# Altium schematic symbol library SCH - MCU - INFINEON - INFINEON S6E2HE4F0XXV2 LQFP-100.SchLib: 1 symbol
Pins are listed as number, name and electrical type; pins without a type are passive.

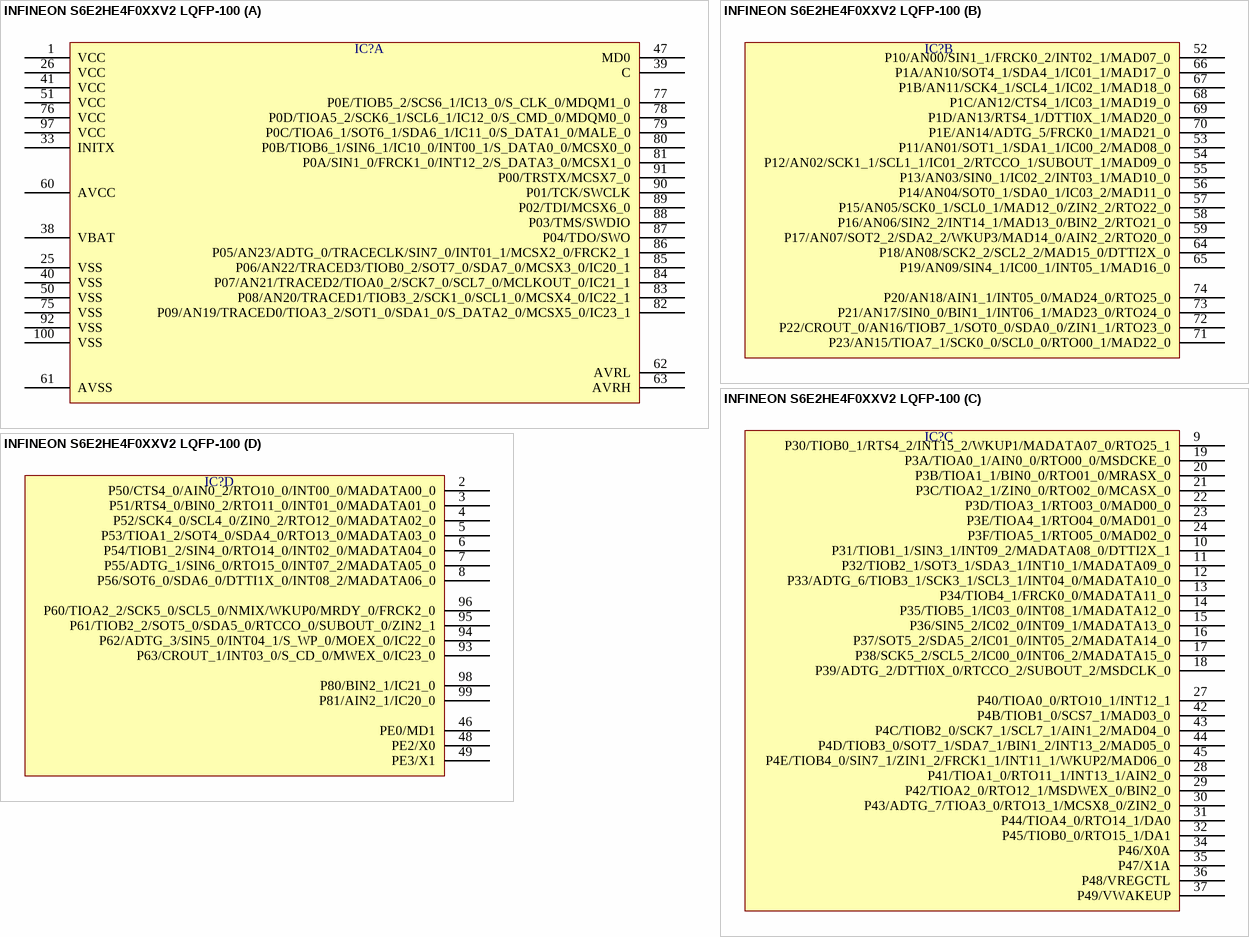
[diagram p0: symbol INFINEON S6E2HE4F0XXV2 LQFP-100]

## INFINEON S6E2HE4F0XXV2 LQFP-100
designator IC?  (value not drawn)
part A pins: 1 VCC, 25 VSS, 26 VCC, 33 INITX, 38 VBAT, 39 C, 40 VSS, 41 VCC, 47 MD0, 50 VSS, 51 VCC, 60 AVCC, 61 AVSS, 62 AVRL, 63 AVRH, 75 VSS, 76 VCC, 77 P0E/TIOB5_2/SCS6_1/IC13_0/S_CLK_0/MDQM1_0, 78 P0D/TIOA5_2/SCK6_1/SCL6_1/IC12_0/S_CMD_0/MDQM0_0, 79 P0C/TIOA6_1/SOT6_1/SDA6_1/IC11_0/S_DATA1_0/MALE_0, 80 P0B/TIOB6_1/SIN6_1/IC10_0/INT00_1/S_DATA0_0/MCSX0_0, 81 P0A/SIN1_0/FRCK1_0/INT12_2/S_DATA3_0/MCSX1_0, 82 P09/AN19/TRACED0/TIOA3_2/SOT1_0/SDA1_0/S_DATA2_0/MCSX5_0/IC23_1, 83 P08/AN20/TRACED1/TIOB3_2/SCK1_0/SCL1_0/MCSX4_0/IC22_1, 84 P07/AN21/TRACED2/TIOA0_2/SCK7_0/SCL7_0/MCLKOUT_0/IC21_1, 85 P06/AN22/TRACED3/TIOB0_2/SOT7_0/SDA7_0/MCSX3_0/IC20_1, 86 P05/AN23/ADTG_0/TRACECLK/SIN7_0/INT01_1/MCSX2_0/FRCK2_1, 87 P04/TDO/SWO, 88 P03/TMS/SWDIO, 89 P02/TDI/MCSX6_0, 90 P01/TCK/SWCLK, 91 P00/TRSTX/MCSX7_0, 92 VSS, 97 VCC, 100 VSS
part B pins: 52 P10/AN00/SIN1_1/FRCK0_2/INT02_1/MAD07_0, 53 P11/AN01/SOT1_1/SDA1_1/IC00_2/MAD08_0, 54 P12/AN02/SCK1_1/SCL1_1/IC01_2/RTCCO_1/SUBOUT_1/MAD09_0, 55 P13/AN03/SIN0_1/IC02_2/INT03_1/MAD10_0, 56 P14/AN04/SOT0_1/SDA0_1/IC03_2/MAD11_0, 57 P15/AN05/SCK0_1/SCL0_1/MAD12_0/ZIN2_2/RTO22_0, 58 P16/AN06/SIN2_2/INT14_1/MAD13_0/BIN2_2/RTO21_0, 59 P17/AN07/SOT2_2/SDA2_2/WKUP3/MAD14_0/AIN2_2/RTO20_0, 64 P18/AN08/SCK2_2/SCL2_2/MAD15_0/DTTI2X_0, 65 P19/AN09/SIN4_1/IC00_1/INT05_1/MAD16_0, 66 P1A/AN10/SOT4_1/SDA4_1/IC01_1/MAD17_0, 67 P1B/AN11/SCK4_1/SCL4_1/IC02_1/MAD18_0, 68 P1C/AN12/CTS4_1/IC03_1/MAD19_0, 69 P1D/AN13/RTS4_1/DTTI0X_1/MAD20_0, 70 P1E/AN14/ADTG_5/FRCK0_1/MAD21_0, 71 P23/AN15/TIOA7_1/SCK0_0/SCL0_0/RTO00_1/MAD22_0, 72 P22/CROUT_0/AN16/TIOB7_1/SOT0_0/SDA0_0/ZIN1_1/RTO23_0, 73 P21/AN17/SIN0_0/BIN1_1/INT06_1/MAD23_0/RTO24_0, 74 P20/AN18/AIN1_1/INT05_0/MAD24_0/RTO25_0
part C pins: 9 P30/TIOB0_1/RTS4_2/INT15_2/WKUP1/MADATA07_0/RTO25_1, 10 P31/TIOB1_1/SIN3_1/INT09_2/MADATA08_0/DTTI2X_1, 11 P32/TIOB2_1/SOT3_1/SDA3_1/INT10_1/MADATA09_0, 12 P33/ADTG_6/TIOB3_1/SCK3_1/SCL3_1/INT04_0/MADATA10_0, 13 P34/TIOB4_1/FRCK0_0/MADATA11_0, 14 P35/TIOB5_1/IC03_0/INT08_1/MADATA12_0, 15 P36/SIN5_2/IC02_0/INT09_1/MADATA13_0, 16 P37/SOT5_2/SDA5_2/IC01_0/INT05_2/MADATA14_0, 17 P38/SCK5_2/SCL5_2/IC00_0/INT06_2/MADATA15_0, 18 P39/ADTG_2/DTTI0X_0/RTCCO_2/SUBOUT_2/MSDCLK_0, 19 P3A/TIOA0_1/AIN0_0/RTO00_0/MSDCKE_0, 20 P3B/TIOA1_1/BIN0_0/RTO01_0/MRASX_0, 21 P3C/TIOA2_1/ZIN0_0/RTO02_0/MCASX_0, 22 P3D/TIOA3_1/RTO03_0/MAD00_0, 23 P3E/TIOA4_1/RTO04_0/MAD01_0, 24 P3F/TIOA5_1/RTO05_0/MAD02_0, 27 P40/TIOA0_0/RTO10_1/INT12_1, 28 P41/TIOA1_0/RTO11_1/INT13_1/AIN2_0, 29 P42/TIOA2_0/RTO12_1/MSDWEX_0/BIN2_0, 30 P43/ADTG_7/TIOA3_0/RTO13_1/MCSX8_0/ZIN2_0, 31 P44/TIOA4_0/RTO14_1/DA0, 32 P45/TIOB0_0/RTO15_1/DA1, 34 P46/X0A, 35 P47/X1A, 36 P48/VREGCTL, 37 P49/VWAKEUP, 42 P4B/TIOB1_0/SCS7_1/MAD03_0, 43 P4C/TIOB2_0/SCK7_1/SCL7_1/AIN1_2/MAD04_0, 44 P4D/TIOB3_0/SOT7_1/SDA7_1/BIN1_2/INT13_2/MAD05_0, 45 P4E/TIOB4_0/SIN7_1/ZIN1_2/FRCK1_1/INT11_1/WKUP2/MAD06_0
part D pins: 2 P50/CTS4_0/AIN0_2/RTO10_0/INT00_0/MADATA00_0, 3 P51/RTS4_0/BIN0_2/RTO11_0/INT01_0/MADATA01_0, 4 P52/SCK4_0/SCL4_0/ZIN0_2/RTO12_0/MADATA02_0, 5 P53/TIOA1_2/SOT4_0/SDA4_0/RTO13_0/MADATA03_0, 6 P54/TIOB1_2/SIN4_0/RTO14_0/INT02_0/MADATA04_0, 7 P55/ADTG_1/SIN6_0/RTO15_0/INT07_2/MADATA05_0, 8 P56/SOT6_0/SDA6_0/DTTI1X_0/INT08_2/MADATA06_0, 46 PE0/MD1, 48 PE2/X0, 49 PE3/X1, 93 P63/CROUT_1/INT03_0/S_CD_0/MWEX_0/IC23_0, 94 P62/ADTG_3/SIN5_0/INT04_1/S_WP_0/MOEX_0/IC22_0, 95 P61/TIOB2_2/SOT5_0/SDA5_0/RTCCO_0/SUBOUT_0/ZIN2_1, 96 P60/TIOA2_2/SCK5_0/SCL5_0/NMIX/WKUP0/MRDY_0/FRCK2_0, 98 P80/BIN2_1/IC21_0, 99 P81/AIN2_1/IC20_0